# EAGLE library part MAX756 (library KwanSystems)
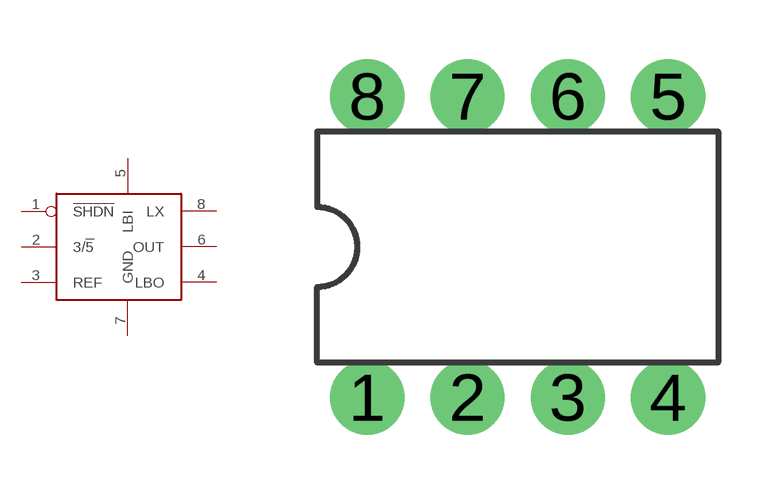
[diagram p44: symbol with the pads of DIL-8; footprint DIL-8]

Designator prefix -

## MAX756  [DIL-8]
1  !SHDN
2  3/!5
3  REF
4  LBO
5  LBI
6  OUT
7  GND
8  LX

## Footprint DIL-8 (pad centres in mm)
drill 1.016 pad 1.88: 1 -3.81,-3.81; 2 -1.27,-3.81; 3 1.27,-3.81; 4 3.81,-3.81; 5 3.81,3.81; 6 1.27,3.81; 7 -1.27,3.81; 8 -3.81,3.81